# Altium schematic symbol library SamlibSCH.SchLib: 216 symbols (part 3 of 5)
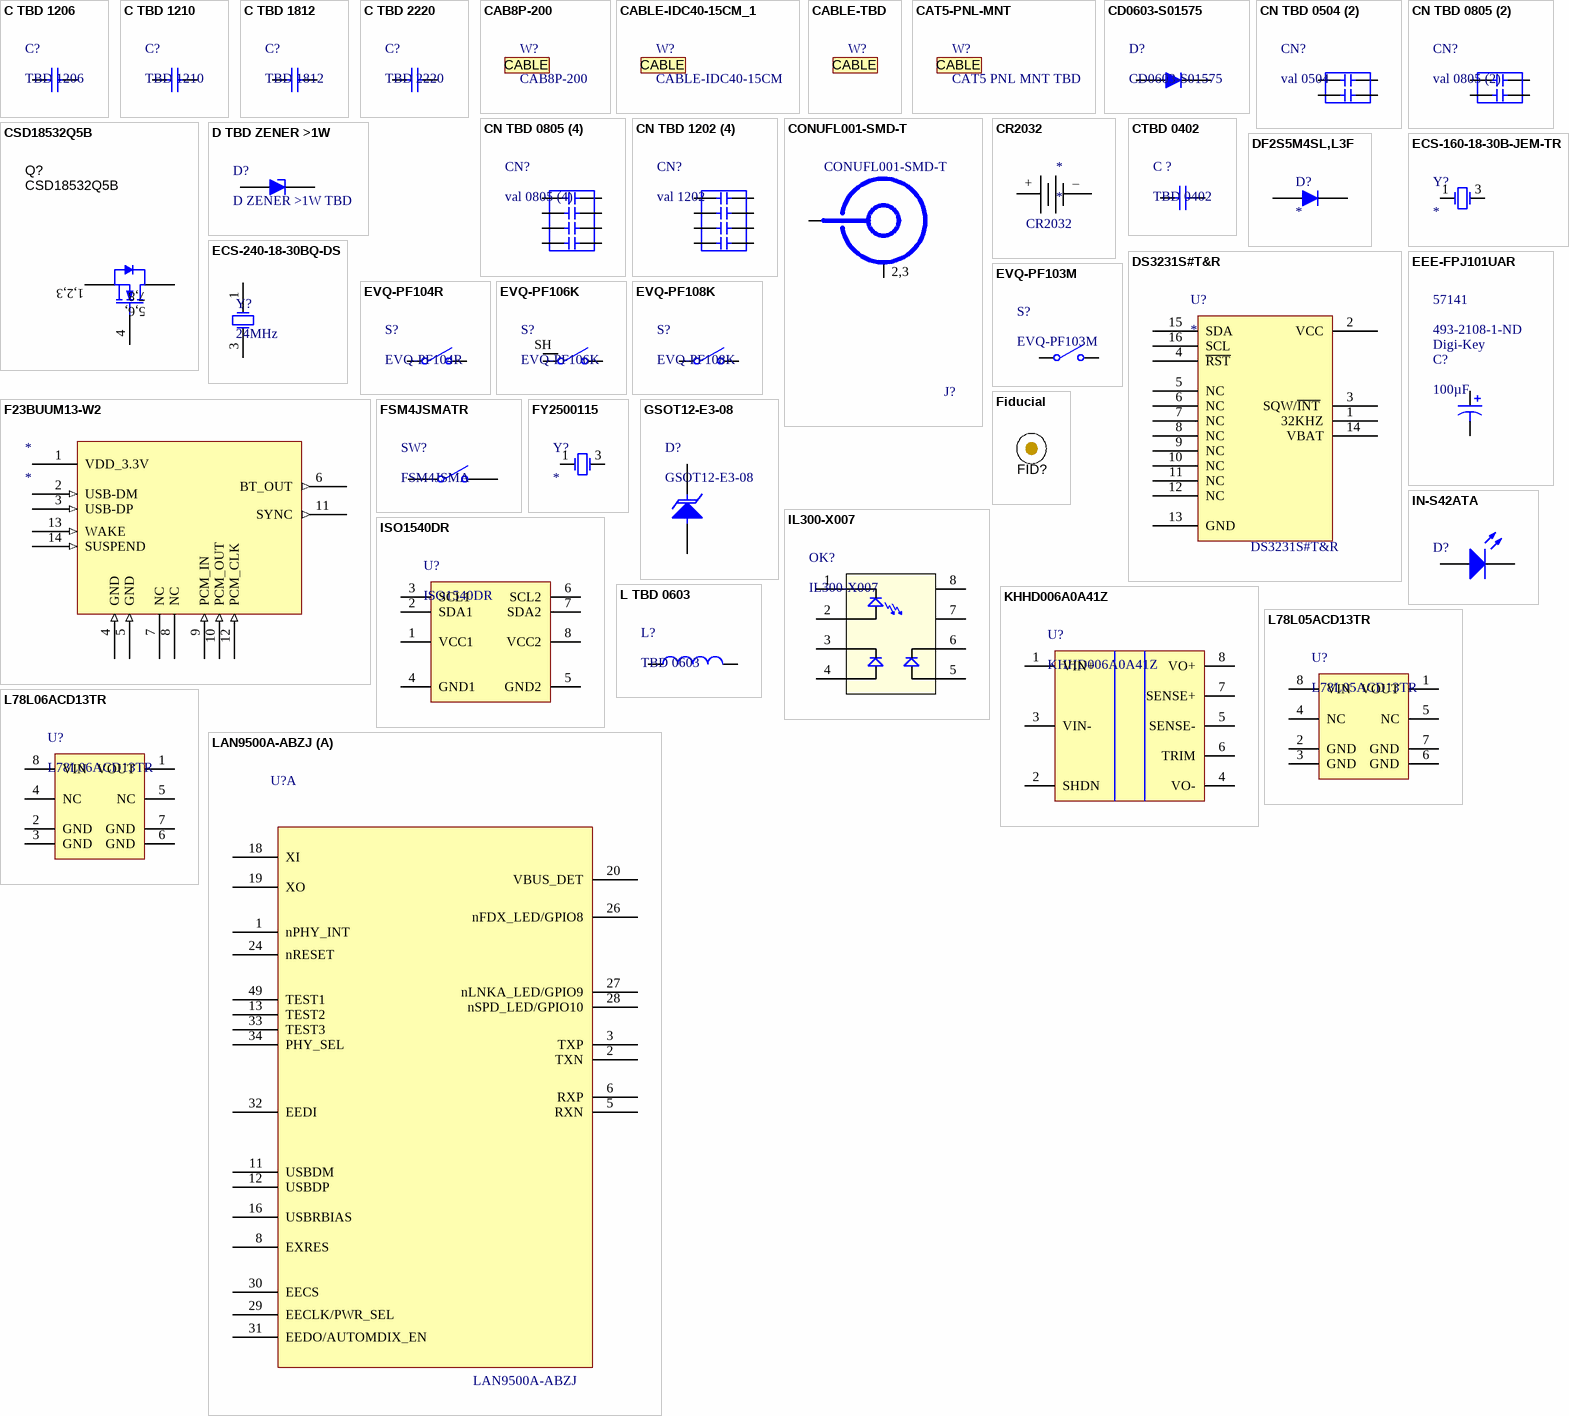
[diagram p9: symbols C TBD 1206 to LAN9500A-ABZJ]

## EVQ-PF103M
designator S?
SWITCH TACTILE SPST-NO 0.02A 15V; Manufacturer: Panasonic Electronic Components; Switch Function: Off-Mom; Contact Rating @ Voltage: 0.02A @ 15VDC; Actuator Type: Standard; Actuator Height off PCB, from Pins: 3.15mm; Actuator Orientation: Side Actuated; Outline: 7.50mm x 7.10mm; Illumination: Non-Illuminated; Operating Force: 130gf; Switch Travel: 0.25mm; Mechanical Life: 100,000 Cycles; Packaging: Bulk; Circuit: SPST-NO; Mounting Type: Through Hole, Right Angle; Termination Style: PC Pin; Illumination Voltage (Nominal): -; Illumination Type, Color: -; Ingress Protection: -; Features: -; Actuator Material: -; Operating Temperature: -20°C ~ 70°C; ComponentLink1URL: http://industrial.panasonic.com/www-data/pdf/ATK0000/ATK0000CE32.pdf; ComponentLink1Description: http://industrial.panasonic.com/www-data/pdf/ATK0000/ATK0000CE32.pdf; Supplier 1: Digi-Key; Supplier Part Number 1: P10881S-ND; Manufacturer Part Number: EVQ-PF103M; RoHS: RoHS Compliant; Category: Switches; Stock: 125; Pricing: 1=0.29, 10=0.276, 25=0.2364, 50=0.201, 100=0.1931, 250=0.17336, 500=0.16548, 1000=0.1379, 5000=0.1182 (USD)
footprint EVQPF-3.15 (Panasonic Right Angle Tactile Switch (7.50mm x 7.10mm x 4mm Center))
pins: 1 CO, 2 NO

## EVQ-PF104R
designator S?
SWITCH TACTILE SPST-NO 0.02A 15V; Manufacturer: Panasonic Electronic Components; Switch Function: Off-Mom; Contact Rating @ Voltage: 0.02A @ 15VDC; Actuator Type: Standard; Actuator Height off PCB, from Pins: 3.85mm; Actuator Orientation: Side Actuated; Outline: 7.50mm x 7.10mm; Illumination: Non-Illuminated; Operating Force: 130gf; Switch Travel: 0.25mm; Mechanical Life: 100,000 Cycles; Packaging: Bulk; Circuit: SPST-NO; Mounting Type: Through Hole, Right Angle; Termination Style: PC Pin; Illumination Voltage (Nominal): -; Illumination Type, Color: -; Ingress Protection: -; Features: -; Actuator Material: -; Operating Temperature: -20°C ~ 70°C; ComponentLink1URL: http://industrial.panasonic.com/www-data/pdf/ATK0000/ATK0000CE32.pdf; ComponentLink1Description: http://industrial.panasonic.com/www-data/pdf/ATK0000/ATK0000CE32.pdf; Supplier 1: Digi-Key; Supplier Part Number 1: P10882S-ND; Manufacturer Part Number: EVQ-PF104R; RoHS: RoHS Compliant; Category: Switches; Stock: 5473; Pricing: 1=0.29, 10=0.276, 25=0.2364, 50=0.201, 100=0.1931, 250=0.17336, 500=0.16548, 1000=0.1379, 5000=0.1182 (USD)
footprint EVQPF-3.85 (Panasonic Right Angle Tactile Switch (7.50mm x 7.10mm x 4mm Center))
pins: 1 CO, 2 NO

## EVQ-PF106K
designator S?
SWITCH TACTILE SPST-NO 0.02A 15V; Manufacturer: Panasonic Electronic Components; Switch Function: Off-Mom; Contact Rating @ Voltage: 0.02A @ 15VDC; Actuator Type: Standard; Actuator Height off PCB, from Pins: 5.85mm; Actuator Orientation: Side Actuated; Outline: 7.50mm x 7.10mm; Illumination: Non-Illuminated; Operating Force: 130gf; Switch Travel: 0.25mm; Mechanical Life: 100,000 Cycles; Packaging: Bulk; Circuit: SPST-NO; Mounting Type: Through Hole, Right Angle; Termination Style: PC Pin; Illumination Voltage (Nominal): -; Illumination Type, Color: -; Ingress Protection: -; Features: -; Actuator Material: -; Operating Temperature: -20°C ~ 70°C; ComponentLink1URL: http://industrial.panasonic.com/www-data/pdf/ATK0000/ATK0000CE32.pdf; ComponentLink1Description: http://industrial.panasonic.com/www-data/pdf/ATK0000/ATK0000CE32.pdf; Supplier 1: Digi-Key; Supplier Part Number 1: P10883S-ND; Manufacturer Part Number: EVQ-PF106K; RoHS: RoHS Compliant; Category: Switches; Stock: 6600; Pricing: 1=0.29, 10=0.276, 25=0.2364, 50=0.201, 100=0.1931, 250=0.17336, 500=0.16548, 1000=0.1379, 5000=0.1182 (USD)
footprint EVQPF-5.85 (Panasonic Right Angle Tactile Switch (7.50mm x 7.10mm x 4mm Center))
pins: CO, NO, SH

## EVQ-PF108K
designator S?
SWITCH TACTILE SPST-NO 0.02A 15V; Manufacturer: Panasonic Electronic Components; Switch Function: Off-Mom; Contact Rating @ Voltage: 0.02A @ 15VDC; Actuator Type: Standard; Actuator Height off PCB, from Pins: 8.35mm; Actuator Orientation: Side Actuated; Outline: 7.50mm x 7.10mm; Illumination: Non-Illuminated; Operating Force: 130gf; Switch Travel: 0.25mm; Mechanical Life: 100,000 Cycles; Packaging: Bulk; Circuit: SPST-NO; Mounting Type: Through Hole, Right Angle; Termination Style: PC Pin; Illumination Voltage (Nominal): -; Illumination Type, Color: -; Ingress Protection: -; Features: -; Actuator Material: -; Operating Temperature: -20°C ~ 70°C; ComponentLink1URL: http://industrial.panasonic.com/www-data/pdf/ATK0000/ATK0000CE32.pdf; ComponentLink1Description: http://industrial.panasonic.com/www-data/pdf/ATK0000/ATK0000CE32.pdf; Supplier 1: Digi-Key; Supplier Part Number 1: P10884S-ND; Manufacturer Part Number: EVQ-PF108K; RoHS: RoHS Compliant; Category: Switches; Stock: 8421; Pricing: 1=0.29, 10=0.276, 25=0.2364, 50=0.201, 100=0.1931, 250=0.17336, 500=0.16548, 1000=0.1379, 5000=0.1182 (USD)
footprint EVQPF-8.35 (Panasonic Right Angle Tactile Switch (7.50mm x 7.10mm x 4mm Center))
pins: 1 CO, 2 NO

## F23BUUM13-W2
designator *
WiFi Bluetooth RTL8723 2.4G USB Wireless Transceiver Module
footprint F23BUUM13-W2 (WiFi Bluetooth RTL8723 2.4G USB Wireless Transceiver Module)
pins: 1 VDD_3.3V (power), 2 USB-DM (in), 3 USB-DP (in), 4 GND (in), 5 GND (in), 6 BT_OUT (out), 7 NC (oc), 8 NC, 9 PCM_IN (in), 10 PCM_OUT (in), 11 SYNC (out), 12 PCM_CLK (in), 13 WAKE (in), 14 SUSPEND (in)

## Fiducial
designator FID?  (value not drawn)
FID MARK (NOTHING TO MNT OR BUY)
footprint Fiducial10-30
footprint Fiducial10-20
footprint Fiducial15-30
footprint Fiducial20-40
footprint Fiducial6.4-20

## FSM4JSMATR
designator SW?, comment FSM4JSMA
SWITCH TACTILE SPST-NO 0.05A 24V; Manufacturer: TE Connectivity Alcoswitch Switches; Switch Function: Off-Mom; Contact Rating @ Voltage: 0.05A @ 24VDC; Actuator Type: Standard; Actuator Height off PCB, from Pins: 5.00mm; Actuator Orientation: Top Actuated; Outline: 6.00mm x 6.00mm; Illumination: Non-Illuminated; Operating Force: 160gf; Actuator Material: Polyphenylene Sulfide (PPS); Switch Travel: 0.25mm; Mechanical Life: 100,000 Cycles; Packaging: Bulk; Circuit: SPST-NO; Mounting Type: Surface Mount; Termination Style: Gull Wing; Illumination Voltage (Nominal): -; Illumination Type, Color: -; Ingress Protection: -; Features: -; Operating Temperature: -35°C ~ 85°C; ComponentLink1URL: http://www.te.com/commerce/DocumentDelivery/DDEController?Action=srchrtrv&DocNm=2-1437565-7&DocType=Customer+Drawing&DocLang=English; ComponentLink1Description: http://www.te.com/commerce/DocumentDelivery/DDEController?Action=srchrtrv&DocNm=2-1437565-7&DocType=Customer+Drawing&DocLang=English; Supplier 1: Digi-Key; Supplier Part Number 1: 450-1129-ND; Manufacturer Part Number: FSM4JSMA; RoHS: RoHS Compliant; Category: Switches; Stock: 22069; Pricing: 1=0.2, 10=0.196, 25=0.19, 50=0.183, 100=0.173, 200=0.162, 500=0.155, 1000=0.119, 2000=0.096 (USD)
footprint FSM4JSMATR (SWITCH TACTILE SPST-NO 0.05A 24V)
pins: 1 CO hidden to CO, 2 CO, 3 NO hidden to NO, 4 NO

## FY2500115
designator Y?
CRYSTAL 25.0000MHZ 8PF SMD; Manufacturer 1: Diodes; Manufacturer Part Number 1: FY2500115; Frequency: 25MHz; ESR (Equivalent Series Resistance): 50R; Frequency Stability: 10ppm; ComponentLink1URL: https://www.eea.epson.com/wp-content/uploads/2016/11/November-2016-PCS-MASTER-BOOK.pdf?src-supplier=Verical; ComponentLink1Description: https://www.eea.epson.com/wp-content/uploads/2016/11/November-2016-PCS-MASTER-BOOK.pdf?src-supplier=Verical; ComponentLink2URL: https://www5.epsondevice.com/en/information/support/pdf/june_2018_psc_masterbook.pdf?src-supplier=Digi-Key; ComponentLink2Description: https://www5.epsondevice.com/en/information/support/pdf/june_2018_psc_masterbook.pdf?src-supplier=Digi-Key; ComponentLink3URL: https://www.eea.epson.com/wp-content/uploads/2016/11/November-2016-PCS-MASTER-BOOK.pdf?src-supplier=Mouser; ComponentLink3Description: https://www.eea.epson.com/wp-content/uploads/2016/11/November-2016-PCS-MASTER-BOOK.pdf?src-supplier=Mouser; ComponentLink4URL: https://www.eea.epson.com/wp-content/uploads/2016/11/November-2016-PCS-MASTER-BOOK.pdf?src-supplier=Dove; ComponentLink4Description: https://www.eea.epson.com/wp-content/uploads/2016/11/November-2016-PCS-MASTER-BOOK.pdf?src-supplier=Dove; Supplier 1: Digi-Key; Stock 1: 252; Pricing 1: 1=0.66000, 10=0.58700, 50=0.54880, 100=0.48510, 500=0.45954 (USD); RoHS: Yes; Mount: Surface Mount; Case/Package: SMD/SMT; Min Operating Temperature: -20°C; Max Operating Temperature: 70°C; Packaging: Tape and Reel; Load Capacitance: 8pF; Frequency Tolerance: 10ppm; Length: 0.197inch; Height: 0.043inch; Width: 0.126inch; Supplier Part Number 1: FY2500115CT-ND
footprint SMD 3.2MMx5MM (XTAL 3.2MMx5MM)
pins: 1 OSC1, 3 OSC2

## GSOT12-E3-08
designator D?
TVS DIODE 12VWM 26VC SOT23; Manufacturer: Vishay Semiconductor Diodes Division; Type: Zener; Unidirectional Channels: 1; Voltage - Reverse Standoff (Typ): 12V (Max); Voltage - Breakdown (Min): 13.5V; Voltage - Clamping (Max) @ Ipp: 26V; Current - Peak Pulse (10/1000µs): 12A (8/20µs); Power - Peak Pulse: 312W; Power Line Protection: No; Capacitance @ Frequency: 115pF @ 1MHz; Supplier 1: Digi-Key; Manufacturer Part Number: GSOT12-E3-08; RoHS: RoHS Compliant; Category: Circuit Protection; Stock 1: 18892; Pricing 1: 1=0.38, 10=0.283, 100=0.1764, 500=0.1206, 1000=0.0927 (USD); Packaging: Digi-Reel®; Bidirectional Channels: -; Applications: General Purpose; Operating Temperature: -40°C ~ 125°C (TJ); Mounting Type: Surface Mount; Package / Case: TO-236-3, SC-59, SOT-23-3; Supplier Device Package: SOT-23-3; ComponentLink1URL: http://www.vishay.com/docs/85807/gsot03.pdf; ComponentLink1Description: http://www.vishay.com/docs/85807/gsot03.pdf; Supplier Part Number 1: GSOT12-E3-08DKR-ND
footprint SOT23-3N (SOT23, 3-Leads, Body 2.9x1.3mm, Pitch 0.95mm, Lead Span 2.5mm, IPC Medium Density)
pins: 1 A, 3 K

## IL300-X007
designator OK?
OPTOISO 5.3KV PHVOLT 8SMD; Manufacturer: Vishay Semiconductor Opto Division; Number of Channels: 1; Voltage - Isolation: 5300Vrms; Rise / Fall Time (Typ): 1µs, 1µs; Input Type: DC; Output Type: Photovoltaic, Linearized; Voltage - Output (Max): 500mV; Voltage - Forward (Vf) (Typ): 1.25V; Current - DC Forward (If) (Max): 60mA; Packaging: Tube; Current Transfer Ratio (Min): -; Current Transfer Ratio (Max): -; Turn On / Turn Off Time (Typ): -; Current - Output / Channel: -; Vce Saturation (Max): -; Operating Temperature: -55°C ~ 100°C; Mounting Type: Surface Mount; Package / Case: 8-SMD, Gull Wing; Supplier Device Package: 8-SMD; ComponentLink1URL: http://www.vishay.com/docs/83622/il300.pdf; ComponentLink1Description: http://www.vishay.com/docs/83622/il300.pdf; Supplier 1: Digi-Key; Supplier Part Number 1: IL300-X007-ND; Manufacturer Part Number: IL300-X007; RoHS: RoHS Compliant; Category: Isolators; Stock: 1546; Pricing: 1=4.81, 10=4.008, 25=3.3664, 100=2.8854, 250=2.5648, 500=2.32436, 750=2.2442, 1000=2.13199 (USD)
footprint SOJ254P1020X460-8L (SOJ, 8-Leads, Body 10.00x10.25mm, Pitch 2.54mm, IPC High Density)
pins: 1, 2, 3, 4, 5, 6, 7, 8

## IN-S42ATA
designator D?  (value not drawn)
LED AMBER CLEAR 0402 SMD; Manufacturer: Inolux; Manufacturer Part Number: IN-S42ATA; Supplier 1: Digi-Key; Supplier Part Number 1: 1830-1054-1-ND; Stock 1: 10882; Pricing 1: 1 = 0.53000, 10 = 0.38200, 25 = 0.29320, 100 = 0.19120, 250 = 0.14020, 500 = 0.11894, 1000 = 0.09770, 2500 = 0.08496 (USD); RoHS: No
footprint IN-S42ATA (LED, Body 1.0x0.5mm, IPC High Density)
pins: 1 A, 2 K

## ISO1540DR
designator U?
DGTL ISO 2.5KV 2CH I2C 8SOIC; Manufacturer: Texas Instruments; Isolated Power: No; Number of Channels: 2; Inputs - Side 1/Side 2: 2/2; Channel Type: Bidirectional; Voltage - Isolation: 2500Vrms; Common Mode Transient Immunity (Min): 25kV/µs; Data Rate: 1Mbps; Pulse Width Distortion (Max): 80ns, 21ns; Voltage - Supply: 3 V ~ 5.5 V; Packaging: Cut Tape (CT); Technology: Capacitive Coupling; Type: I²C; Propagation Delay tpLH / tpHL (Max): -; Rise / Fall Time (Typ): -; Operating Temperature: -40°C ~ 125°C; Package / Case: 8-SOIC (0.154", 3.90mm Width); Supplier Device Package: 8-SOIC; ComponentLink1URL: http://www.ti.com/lit/ds/symlink/iso1540.pdf; ComponentLink1Description: http://www.ti.com/lit/ds/symlink/iso1540.pdf; Supplier 1: Digi-Key; Supplier Part Number 1: 296-34871-1-ND; Manufacturer Part Number: ISO1540DR; RoHS: RoHS Compliant; Category: Isolators; Stock 1: 5039; Pricing: 1=4.91, 10=4.41, 100=3.618, 500=3.078, 1000=2.25 (USD)
footprint SOIC127P600X175-8N (SOIC, 8-Leads, Body 4.9x3.9mm (max), Pitch 1.27mm, IPC Medium Density)
pins: 1 VCC1, 2 SDA1, 3 SCL1, 4 GND1, 5 GND2, 6 SCL2, 7 SDA2, 8 VCC2

## KHHD006A0A41Z
designator U?
DC/DC CONVERTER 5V 30W; Number of Outputs: 1; Voltage - Input (Min): 18V; Voltage - Input (Max): 75V; Current - Output (Max): 6A; Voltage - Isolation: 2.25kV (2250V); Efficiency: 90%; Input Voltage: 18 V to 75 V; Isolation Voltage: 2250 V; Package / Case Size: 1/16 Brick; Brand: GE Critical Power; Output Current-Channel 1: 6 A; Packaging: Tray; Type: Isolated Module; Voltage - Output 1: 5V; Voltage - Output 2: -; Voltage - Output 3: -; Power (Watts) - Manufacture Series: 30W; Features: Remote On/Off, OCP, OTP, OVP, SCP, UVLO; Mounting Type: Through Hole; Package / Case: 8-DIP Module, 1/16 Brick; Size / Dimension: 1.30" L x 0.90" W x 0.37" H (33.0mm x 22.9mm x 9.3mm); Operating Temperature: -40°C ~ 85°C; Power (Watts) - Max: 30W; ComponentLink1URL: http://apps.geindustrial.com/publibrary/checkout/KHHD006A0A?TNR=Data%20Sheets%7CKHHD006A0A%7Cgeneric; ComponentLink1Description: http://apps.geindustrial.com/publibrary/checkout/KHHD006A0A?TNR=Data%20Sheets%7CKHHD006A0A%7Cgeneric; Dimensions: 1.3 in  x 0.9 in  x 0.37 in; Height: 0.37 in; Length: 1.3 in; Operating Temperature Range: - 40 C to + 85 C; Product: Isolated; Series: KHHD; Width: 0.9 in; Mounting Style: Through Hole; Output Voltage-Channel 1: 5 V; Product Category: Sixteenth-Brick Isolated DC-DC Converters; Standard Pack Qty: 75; RoHS - Mouser: Y; Minimum Order Quantity: 1; Reeling: False; ComponentLink2URL: http://www.mouser.com/ds/2/167/KHHD006A0A-473808.pdf; ComponentLink2Description: http://www.mouser.com/ds/2/167/KHHD006A0A-473808.pdf; Supplier 1: Digi-Key; Supplier Part Number 1: 555-1324-ND; Manufacturer: GE Critical Power; Manufacturer Part Number: KHHD006A0A41Z; RoHS: RoHS Compliant; Category: Power Supplies - Board Mount; Stock: 178; Pricing: 1=24.86, 5=24.672, 25=24.0976, 50=22.95, 100=21.0375, 250=20.655, 500=20.349 (USD); Supplier 2: Mouser; Supplier Part Number 2: 894-KHHD006A0A41Z
footprint KHHD006A0A41Z (DC/DC CONVERTER 5V 30W)
pins: 1 VIN+, 2 SHDN, 3 VIN-, 4 VO-, 5 SENSE-, 6 TRIM, 7 SENSE+, 8 VO+

## L78L05ACD13TR
designator U?
IC REG LDO 5V 0.1A 8SO; Manufacturer: STMicroelectronics; Regulator Topology: Positive Fixed; Current - Output: 100mA; Voltage - Dropout (Typical): 1.7V @ 40mA; Number of Regulators: 1; Voltage - Input: Up to 30V; Packaging: Cut Tape (CT); Voltage - Output: 5V; Current - Limit (Min): -; Operating Temperature: 0°C ~ 125°C; Mounting Type: Surface Mount; Package / Case: 8-SOIC (0.154", 3.90mm Width); Supplier Device Package: 8-SO; ComponentLink1URL: http://www.st.com/content/ccc/resource/technical/document/datasheet/15/55/e5/aa/23/5b/43/fd/CD00000446.pdf/files/CD00000446.pdf/jcr:content/translations/en.CD00000446.pdf; ComponentLink1Description: http://www.st.com/content/ccc/resource/technical/document/datasheet/15/55/e5/aa/23/5b/43/fd/CD00000446.pdf/files/CD00000446.pdf/jcr:content/translations/en.CD00000446.pdf; Supplier 1: Digi-Key; Supplier Part Number 1: 497-1182-1-ND; Manufacturer Part Number: L78L05ACD13TR; RoHS: RoHS Compliant; Category: Integrated Circuits (ICs); Stock 1: 12145; Pricing: 1=0.41, 10=0.308, 100=0.1921, 500=0.13132, 1000=0.10094 (USD)
footprint SOIC127P600X175-8N (SOIC, 8-Leads, Body 4.9x3.9mm (max), Pitch 1.27mm, IPC Medium Density)
pins: 1 VOUT, 2 GND (power), 3 GND (power), 4 NC, 5 NC, 6 GND (power), 7 GND (power), 8 VIN (power)

## L78L06ACD13TR
designator U?
IC REG LDO 6V 0.1A 8SO; Manufacturer: STMicroelectronics; Regulator Topology: Positive Fixed; Current - Output: 100mA; Voltage - Dropout (Typical): 1.7V @ 40mA; Number of Regulators: 1; Voltage - Input: Up to 30V; Packaging: Cut Tape (CT); Voltage - Output: 6V; Current - Limit (Min): -; Operating Temperature: 0°C ~ 125°C; Mounting Type: Surface Mount; Package / Case: 8-SOIC (0.154", 3.90mm Width); Supplier Device Package: 8-SO; ComponentLink1URL: http://www.st.com/content/ccc/resource/technical/document/datasheet/15/55/e5/aa/23/5b/43/fd/CD00000446.pdf/files/CD00000446.pdf/jcr:content/translations/en.CD00000446.pdf; ComponentLink1Description: http://www.st.com/content/ccc/resource/technical/document/datasheet/15/55/e5/aa/23/5b/43/fd/CD00000446.pdf/files/CD00000446.pdf/jcr:content/translations/en.CD00000446.pdf; Supplier 1: Digi-Key; Supplier Part Number 1: 497-1185-1-ND; Manufacturer Part Number: L78L06ACD13TR; RoHS: RoHS Compliant; Category: Integrated Circuits (ICs); Stock 1: 8308; Pricing: 1=0.36, 10=0.29, 100=0.198, 500=0.1482, 1000=0.111 (USD)
footprint SOIC127P600X175-8N (SOIC, 8-Leads, Body 4.9x3.9mm (max), Pitch 1.27mm, IPC Medium Density)
pins: 1 VOUT, 2 GND (power), 3 GND (power), 4 NC, 5 NC, 6 GND (power), 7 GND (power), 8 VIN (power)

## L TBD 0603
designator L?, comment TBD 0603
footprint INDC1608AL (Chip Inductor, Body 1.6x0.8mm, IPC High Density)
footprint 0603 (0603 from SM-752 data)
pins: 1, 2

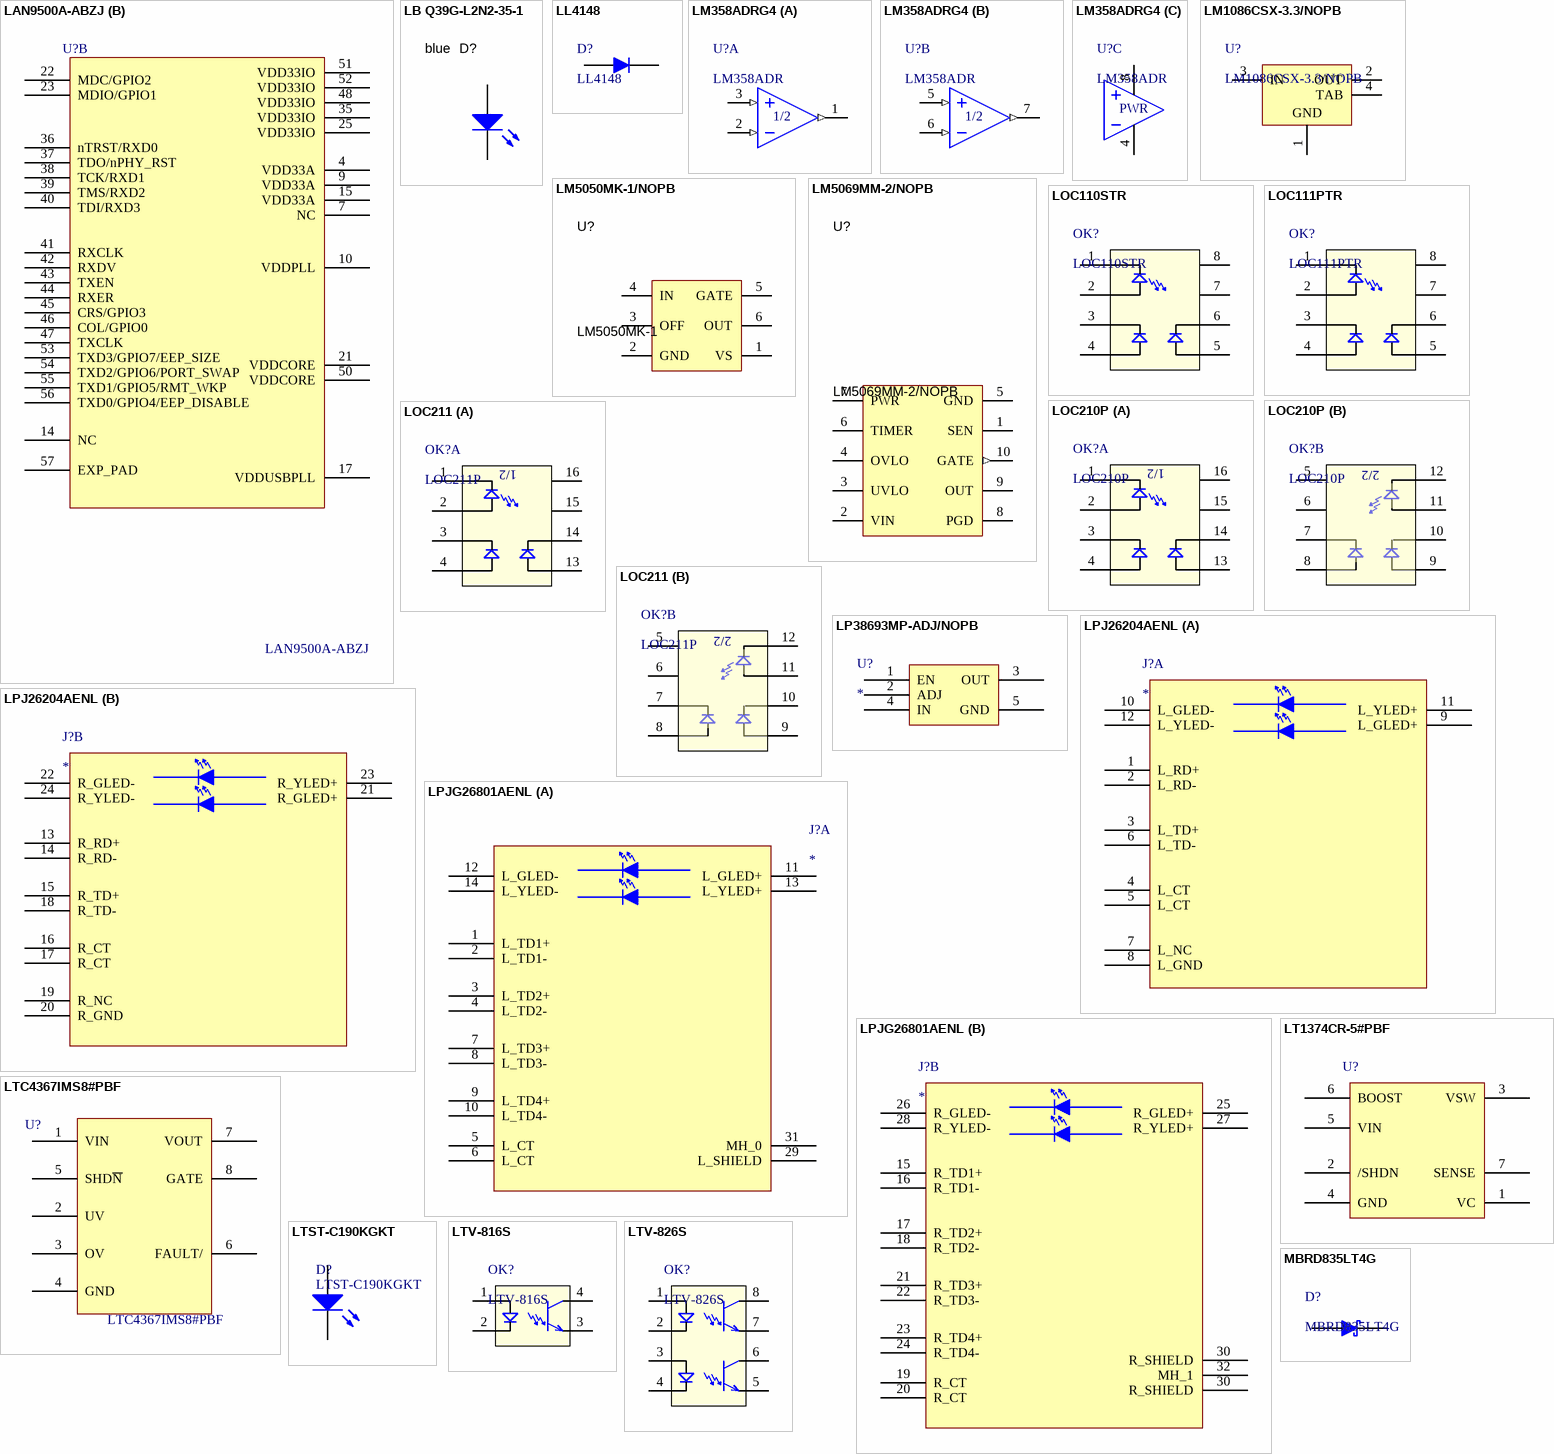
[diagram p3: symbols LAN9500A-ABZJ to MBRD835LT4G]

## LAN9500A-ABZJ
designator U?  Manufacturer Part Number: LAN9500A-ABZJ  (hidden comment: *)
IC USB 2.0 ETHER CTRLR 56-QFN; Manufacturer: Microchip; Data Rate: 100Mbps; Min Supply Voltage: 3V; Max Supply Voltage: 3.6V; Operating Supply Voltage: 3.3V; Max Power Dissipation: 618mW; Number of Transceivers: 1; Max Supply Current: 103mA; ComponentLink1URL: https://datasheet.ciiva.com/6636/filehandler-aspxddocname-en562338-6636277.pdf?src-supplier=Digi-Key; ComponentLink1Description: https://datasheet.ciiva.com/6636/filehandler-aspxddocname-en562338-6636277.pdf?src-supplier=Digi-Key; Supplier 1: Digi-Key; Supplier Part Number 1: LAN9500A-ABZJ-ND; Stock 1: 41; Pricing 1: 1 = 3.96000, 25 = 3.29600, 100 = 3.18010 (USD); RoHS: Yes; Mount: Surface Mount; Case/Package: QFN; Number of Pins: 56; Contact Plating: Tin; Min Operating Temperature: 0°C; Max Operating Temperature: 70°C; Packaging: Tray; Package Quantity: 260; Interface: USB; Length: 8.15mm; Height: 0.9mm; Width: 8.15mm; Radiation Hardening: No; Lead Free: Lead Free; REACH SVHC: No SVHC; ComponentLink2URL: https://datasheet.ciiva.com/22656/1907741-22656486.pdf?src-supplier=Element14; ComponentLink2Description: https://datasheet.ciiva.com/22656/1907741-22656486.pdf?src-supplier=Element14; ComponentLink3URL: https://datasheet.ciiva.com/6636/filehandler-aspxddocname-en562338-6636268.pdf?src-supplier=Digi-Key; ComponentLink3Description: https://datasheet.ciiva.com/6636/filehandler-aspxddocname-en562338-6636268.pdf?src-supplier=Digi-Key
footprint QFN50P800X800X95_HS-57N (QFN, 56-Leads, Body 8.00x8.00mm, Pitch 0.50mm, Thermal Pad 4.00x2.20mm, IPC Medium Density)
part A pins: 1 nPHY_INT, 2 TXN, 3 TXP, 5 RXN, 6 RXP, 8 EXRES, 11 USBDM, 12 USBDP, 13 TEST2, 16 USBRBIAS, 18 XI, 19 XO, 20 VBUS_DET, 24 nRESET, 26 nFDX_LED/GPIO8, 27 nLNKA_LED/GPIO9, 28 nSPD_LED/GPIO10, 29 EECLK/PWR_SEL, 30 EECS, 31 EEDO/AUTOMDIX_EN, 32 EEDI, 33 TEST3, 34 PHY_SEL, 49 TEST1
part B pins: 4 VDD33A, 7 NC, 9 VDD33A, 10 VDDPLL, 14 NC, 15 VDD33A, 17 VDDUSBPLL, 21 VDDCORE, 22 MDC/GPIO2, 23 MDIO/GPIO1, 25 VDD33IO, 35 VDD33IO, 36 nTRST/RXD0, 37 TDO/nPHY_RST, 38 TCK/RXD1, 39 TMS/RXD2, 40 TDI/RXD3, 41 RXCLK, 42 RXDV, 43 TXEN, 44 RXER, 45 CRS/GPIO3, 46 COL/GPIO0, 47 TXCLK, 48 VDD33IO, 50 VDDCORE, 51 VDD33IO, 52 VDD33IO, 53 TXD3/GPIO7/EEP_SIZE, 54 TXD2/GPIO6/PORT_SWAP, 55 TXD1/GPIO5/RMT_WKP, 56 TXD0/GPIO4/EEP_DISABLE, 57 EXP_PAD

## LB Q39G-L2N2-35-1
designator D?, comment Color: blue  (hidden comment: LB Q39G-L2OO-35-1)
LED BLUE DIFFUSED 0603 SMD; Manufacturer: OSRAM; PartNumber: LB Q39G-L2N2-35-1; Vf_V: 2.85; Value2: 2.85V; Io_A: 0.15; Tjmax_C: 95; Value1: W; U/M: EA; Wavelength - Dominant: 470nm; Wavelength - Peak: 472nm; Millicandela Rating: 29.5mcd; Current - Test: 5mA; Viewing Angle: 155°, 135°; Lens Color: White; Lens Style/Size: Rectangle with Flat Top, 1.10mm x 0.80mm; CompType: LED; SymbolVersion: 2008-12-08; MountType: SMT; RoHS: Y; PackageReference: BLUE 0603 LED; Type: ?; Published: 2008-07-11; Publisher: Texas Instruments; ComponentLink1URL: http://catalog.osram-os.com/catalogue/catalogue.do;jsessionid=8F4D5D14036503CDC6D844D9AC77EBC1?act=downloadFile&favOid=02000006000372cb000100b6; ComponentLink1Description: Datasheet link; LatestRevisionDate: 2015-04-28; Supplier 1: Digi-Key; Supplier Part Number 1: 475-2816-1-ND; Supplier 2: Mouser; Supplier Part Number 2: 720-LBQ39GL2N2351; Packaging: Cut Tape (CT); Voltage - Forward (Vf) (Typ): 2.85V; Lens Transparency: Diffused; Package / Case: 0603 (1608 Metric); Supplier Device Package: *; Size / Dimension: 1.60mm L x 0.80mm W; Height (Max): 0.40mm; Mounting Type: Surface Mount; ComponentLink2URL: http://media.digikey.com/pdf/Data%20Sheets/Osram%20PDFs/LB_LT%20Q39G.pdf; ComponentLink2Description: http://media.digikey.com/pdf/Data%20Sheets/Osram%20PDFs/LB_LT%20Q39G.pdf; Manufacturer Part Number: LB Q39G-L2OO-35-1; Category: Optoelectronics; Stock: 53859; Pricing: 1=0.38, 10=0.266, 25=0.2184, 100=0.1746, 250=0.13092, 500=0.11902, 1000=0.09522 (USD)
signal-integrity model Diode
footprint LB Q39G_BLUE
pins: 1 A, 2 K

## LL4148
designator D?
DIODE GEN PURP 100V 200MA SOD80; Manufacturer: Fairchild Semiconductor; Diode Type: Standard; Voltage - Forward (Vf) (Max) @ If: 1V @ 10mA; Speed: Small Signal =< 200mA (Io), Any Speed; Reverse Recovery Time (trr): 4ns; Current - Reverse Leakage @ Vr: 25nA @ 20V; Capacitance @ Vr, F: 4pF @ 0V, 1MHz; Packaging: Cut Tape (CT); Voltage - DC Reverse (Vr) (Max): 100V; Current - Average Rectified (Io): 200mA; Mounting Type: Surface Mount; Package / Case: DO-213AC, MINI-MELF, SOD-80; Supplier Device Package: SOD-80; Operating Temperature - Junction: -55°C ~ 175°C; ComponentLink1URL: http://www.fairchildsemi.com/datasheets/LL/LL4148.pdf; ComponentLink1Description: http://www.fairchildsemi.com/datasheets/LL/LL4148.pdf; Supplier 1: Digi-Key; Supplier Part Number 1: LL4148FSCT-ND; Manufacturer Part Number: LL4148; RoHS: RoHS Compliant; Category: Discrete Semiconductor Products; Stock 1: 828302; Pricing: 1=0.1, 10=0.077, 100=0.042, 500=0.02582, 1000=0.01761 (USD)
footprint DIOMELF3515N (MELF Diode, 2-Leads, Body 3.50x1.50mm, IPC Medium Density)
pins: 1, 2

## LM358ADRG4
designator U?, comment LM358ADR
IC OPAMP GP 700KHZ 8SOIC; Manufacturer: Texas Instruments; Amplifier Type: General Purpose; Number of Circuits: 2; Slew Rate: 0.3 V/µs; Current - Input Bias: 20nA; Voltage - Input Offset: 2mV; Current - Supply: 1mA; Current - Output / Channel: 30mA; Voltage - Supply, Single/Dual (±): 3 V ~ 32 V, ±1.5 V ~ 16 V; Number of Channels: 2 Channel; Shutdown: No Shutdown; CMRR - Common Mode Rejection Ratio: 65 dB; en - Input Voltage Noise Density: 40 nV/sqrt Hz; Ib - Input Bias Current: - 250 nA; Operating Supply Current: 1.2 mA; Output Current per Channel: 30 mA; SR - Slew Rate: 0.3 V/us; Supply Voltage - Max: 32 V; Supply Voltage - Min: 3 V; Vcm - Common Mode Voltage: Negative Rail to Positive Rail - 1.5 V; Vos - Input Offset Voltage: 3 mV; Packaging: Cut Tape (CT); Output Type: -; Gain Bandwidth Product: 700kHz; -3db Bandwidth: -; Operating Temperature: 0°C ~ 70°C; Mounting Type: Surface Mount; Package / Case: 8-SOIC (0.154", 3.90mm Width); Supplier Device Package: 8-SOIC; ComponentLink1URL: http://www.ti.com/lit/ds/symlink/lm358.pdf; ComponentLink1Description: http://www.ti.com/lit/ds/symlink/lm358.pdf; Supplier 1: Digi-Key; Supplier Part Number 1: 296-14601-1-ND; Manufacturer Part Number: LM358ADR; RoHS: RoHS Compliant; Category: Integrated Circuits (ICs); Stock: 23964; Pricing: 1=0.49, 10=0.371, 100=0.2313, 500=0.15812, 1000=0.12154 (USD); Product: Operational Amplifiers; Series: LM358A; Technology: Bipolar; Brand: Texas Instruments; Mounting Style: SMD/SMT; GBP - Gain Bandwidth Product: 700 kHz; Maximum Operating Temperature: + 70 C; Minimum Operating Temperature: 0 C; Product Category: Amplifiers - Operational; Standard Pack Qty: 75; RoHS - Mouser: Y; Minimum Order Quantity: 1; Reeling: False; ComponentLink2URL: http://www.mouser.com/ds/2/405/lm358a-557593.pdf; ComponentLink2Description: http://www.mouser.com/ds/2/405/lm358a-557593.pdf; Supplier 2: Mouser; Supplier Part Number 2: 595-LM358AD
footprint SOIC127P600X175-8N (SOIC, 8-Leads, Body 4.9x3.9mm (max), Pitch 1.27mm, IPC Medium Density)
part A pins: 1 OUT1 (out), 2 IN1- (in), 3 IN1+ (in)
part B pins: 5 IN1+ (in), 6 IN1- (in), 7 OUT1 (out)
part C pins: 4 V- (power), 8 V+ (power)
part A text: 1/2
part B text: 1/2
part C text: PWR

## LM1086CSX-3.3/NOPB
designator U?
IC REG LDO 3.3V 1.5A DDPAK; Manufacturer: Texas Instruments; Regulator Topology: Positive Fixed; Voltage - Dropout (Typical): 1.3V @ 1.5A; Number of Regulators: 1; Voltage - Input: Up to 27V; Packaging: Cut Tape (CT); Voltage - Output: 3.3V; Current - Output: 1.5A; Current - Limit (Min): 1.5A; Operating Temperature: 0°C ~ 125°C; Mounting Type: Surface Mount; Package / Case: TO-263-4, D²Pak (3 Leads + Tab), TO-263AA; Supplier Device Package: DDPAK/TO-263-3; ComponentLink1URL: http://www.ti.com/lit/ds/symlink/lm1086.pdf; ComponentLink1Description: http://www.ti.com/lit/ds/symlink/lm1086.pdf; Supplier 1: Digi-Key; Supplier Part Number 1: LM1086CSX-3.3/NOPBCT-ND; Manufacturer Part Number: LM1086CSX-3.3/NOPB; RoHS: RoHS Compliant By Exemption; Category: Integrated Circuits (ICs); Stock: 10339; Pricing: 1=1.72, 10=1.548, 100=1.2417 (USD)
footprint TS3B (D2-PAK, 4-Leads, Body 8.6x10.2mm, Pitch 2.54mm, Lead Span 14.2mm, IPC High Density)
pins: 1 GND (power), 2 OUT (power), 3 IN (power), 4 TAB (power)

## LM5050MK-1/NOPB
designator U?, comment LM5050MK-1
IC OR CTRLR N+1 6SOT; Manufacturer: Texas Instruments; Manufacturer Part Number: LM5050MK-1/NOPB; FET Type: N-Channel; Ratio - Input:Output: N:1; Internal Switch(s): No; Delay Time - OFF: 486ns; Current - Supply: 130µA; Voltage - Supply: 5 V ~ 75 V; Packaging: Cut Tape (CT); Type: N+1 ORing Controller; Delay Time - ON: -; Current - Output (Max): -; Applications: Redundant Power Supplies; Operating Temperature: -40°C ~ 125°C; Mounting Type: Surface Mount; Package / Case: SOT-23-6 Thin, TSOT-23-6; Supplier Device Package: 6-SOT; ComponentLink1URL: http://www.ti.com/lit/ds/symlink/lm5050-1.pdf; ComponentLink1Description: http://www.ti.com/lit/ds/symlink/lm5050-1.pdf; Supplier 1: Digi-Key; Supplier Part Number 1: LM5050MK-1/NOPBCT-ND; RoHS: RoHS Compliant; Category: Integrated Circuits (ICs); Stock: 7320; Pricing: 1=2.38, 10=2.138, 100=1.7148, 500=1.4094, 1000=0.97875 (USD)
footprint DDC0006A_N
pins: 1 VS (power), 2 GND (power), 3 OFF, 4 IN, 5 GATE, 6 OUT

## LM5069MM-2/NOPB
designator U?
IC CTRLR HOT SWAP 48V 10-MSOP; Manufacturer: Texas Instruments; Number of Channels: 1; Internal Switch(s): No; Programmable Features: Current Limit, Fault Timeout, OVP, UVLO; Voltage - Supply: 9 V ~ 80 V; Current - Supply: 1.3mA; Feature Pins: OUT, PGD, PWR, OVLO, TIMER, UVLO; Packaging: Cut Tape (CT); Type: Hot Swap Controller; Applications: General Purpose; Features: Auto Retry; Current - Output (Max): -; Operating Temperature: -40°C ~ 125°C; Mounting Type: Surface Mount; Package / Case: 10-TFSOP, 10-MSOP (0.118", 3.00mm Width); Supplier Device Package: 10-VSSOP; ComponentLink1URL: http://www.ti.com/lit/ds/symlink/lm5069.pdf; ComponentLink1Description: http://www.ti.com/lit/ds/symlink/lm5069.pdf; Supplier 1: Digi-Key; Supplier Part Number 1: LM5069MM-2/NOPBCT-ND; Manufacturer Part Number: LM5069MM-2/NOPB; RoHS: RoHS Compliant; Category: Integrated Circuits (ICs); Stock: 12011; Pricing: 1=3.61, 10=3.241, 100=2.6592, 500=2.26234, 1000=1.65375 (USD)
footprint MUB10A_N (TSSOP, 10-Leads, Body 3x3mm, Pitch 0.5mm, IPC Medium Density)
pins: 1 SEN, 2 VIN (power), 3 UVLO, 4 OVLO, 5 GND (power), 6 TIMER, 7 PWR, 8 PGD (oc), 9 OUT, 10 GATE (out)

## LOC110STR
designator OK?
OPTOISO 3.75KV PHVOLT 8SMD; Manufacturer: IXYS Integrated Circuits Division; Number of Channels: 1; Voltage - Isolation: 3750Vrms; Input Type: DC; Output Type: Photovoltaic, Linearized; Voltage - Forward (Vf) (Typ): 1.2V; Current - DC Forward (If) (Max): 100mA; Packaging: Cut Tape (CT); Current Transfer Ratio (Min): -; Current Transfer Ratio (Max): -; Turn On / Turn Off Time (Typ): -; Rise / Fall Time (Typ): -; Voltage - Output (Max): -; Current - Output / Channel: -; Vce Saturation (Max): -; Operating Temperature: -40°C ~ 85°C; Mounting Type: Surface Mount; Package / Case: 8-SMD, Gull Wing; Supplier Device Package: 8-SMD; ComponentLink1URL: http://www.clare.com/home/pdfs.nsf/0/2E7C7ED81A9497A385256A2C0068BE89/$file/LOC110.pdf; ComponentLink1Description: http://www.clare.com/home/pdfs.nsf/0/2E7C7ED81A9497A385256A2C0068BE89/$file/LOC110.pdf; Supplier 1: Digi-Key; Supplier Part Number 1: CLA114CT-ND; Manufacturer Part Number: LOC110STR; RoHS: RoHS Compliant; Category: Isolators; Stock: 6597; Pricing: 1=2.85, 10=2.55, 25=1.8752, 100=1.65, 250=1.5, 500=1.3125 (USD)
footprint LOC110S (SOJ, 8-Leads, Body 10.00x10.25mm, Pitch 2.54mm, IPC Medium Density)
pins: 1, 2, 3, 4, 5, 6, 7, 8

## LOC111PTR
designator OK?
OPTOISO 3.75KV PHVOLT 8-FLATPACK; Manufacturer: IXYS Integrated Circuits Division; Number of Channels: 1; Voltage - Isolation: 3750Vrms; Input Type: DC; Output Type: Photovoltaic, Linearized; Voltage - Forward (Vf) (Typ): 1.2V; Current - DC Forward (If) (Max): 100mA; Packaging: Digi-Reel®; Current Transfer Ratio (Min): -; Current Transfer Ratio (Max): -; Turn On / Turn Off Time (Typ): -; Rise / Fall Time (Typ): -; Voltage - Output (Max): -; Current - Output / Channel: -; Vce Saturation (Max): -; Operating Temperature: -40°C ~ 85°C; Mounting Type: Surface Mount; Package / Case: 8-SMD, Gull Wing; Supplier Device Package: 8-Flatpack; ComponentLink1URL: http://www.clare.com/home/pdfs.nsf/0/8F89219D571B94DA85256A2C0068C4BD/$file/LOC111.pdf; ComponentLink1Description: http://www.clare.com/home/pdfs.nsf/0/8F89219D571B94DA85256A2C0068C4BD/$file/LOC111.pdf; Supplier 1: Digi-Key; Supplier Part Number 1: CLA118DKR-ND; Manufacturer Part Number: LOC111PTR; RoHS: RoHS Compliant; Category: Isolators; Stock: 12737; Pricing: 1=3.34, 10=2.992, 25=2.2, 100=1.936, 250=1.76, 500=1.54 (USD)
footprint LOC110P (SOJ, 8-Leads, Body 10.00x10.25mm, Pitch 2.54mm, IPC High Density)
pins: 1, 2, 3, 4, 5, 6, 7, 8

## LOC210P
designator OK?
OPTOISO 3.75KV 2CH PHVOLT FLTPCK; Isolation Voltage: 3750 Vrms; Output Type: Phototransistor; Brand: IXYS Integrated Circuits; Number of Channels: 2 Channel; Current Transfer Ratio: 0.4 % to 3 %; If - Forward Current: 10 mA; Pd - Power Dissipation: 800 mW; Vf - Forward Voltage: 1.2 V; Vr - Reverse Voltage: 5 V; Package / Case: SOIC-16; Packaging: Tube; Series: LOC210; Maximum Operating Temperature: + 85 C; Minimum Operating Temperature: - 40 C; Standard Pack Qty: 50; Tradename: Clare; Minimum Order Quantity: 1; Reeling: False; ComponentLink1URL: http://www.mouser.com/ds/2/205/LOC210-311975.pdf; ComponentLink1Description: http://www.mouser.com/ds/2/205/LOC210-311975.pdf; Supplier 1: Mouser; Supplier Part Number 1: 849-LOC210P; Manufacturer: IXYS Integrated Circuits; Manufacturer Part Number: LOC210P; Category: High Linearity Optocouplers; Stock: 140; Pricing: 1=5.84, 10=4.67, 100=3.97, 250=3.73, 500=3.50, 1000=3.02, 2500=2.91, 5000=2.78 (AUD)
footprint SOIC127P1040X211-16L (SOIC, 16-Leads, Body 10.16x7.49mm, Pitch 1.27mm, IPC High Density)
part A pins: 1, 2, 3, 4, 13, 14, 15, 16
part B pins: 5, 6, 7, 8, 9, 10, 11, 12
part A text: 1/2
part B text: 2/2

## LOC211
designator OK?, comment LOC211P
OPTOISO 3.75KV 2CH PHVOLT FLTPCK; Isolation Voltage: 3750 Vrms; Output Type: Phototransistor; Brand: IXYS Integrated Circuits; Number of Channels: 2 Channel; Current Transfer Ratio: 0.8 % to 3 %; If - Forward Current: 10 mA; Pd - Power Dissipation: 800 mW; Vf - Forward Voltage: 1.2 V; Vr - Reverse Voltage: 5 V; Package / Case: SOIC-16; Packaging: Tube; Series: LOC211; Maximum Operating Temperature: + 85 C; Minimum Operating Temperature: - 40 C; Standard Pack Qty: 50; Tradename: Clare; Minimum Order Quantity: 1; Reeling: False; ComponentLink1URL: http://www.mouser.com/ds/2/205/LOC211-336321.pdf; ComponentLink1Description: http://www.mouser.com/ds/2/205/LOC211-336321.pdf; Supplier 1: Mouser; Supplier Part Number 1: 849-LOC211P; Manufacturer: IXYS Integrated Circuits; Manufacturer Part Number: LOC211P; Category: High Linearity Optocouplers; Stock: 8; Pricing: 1=5.84, 10=4.67, 100=3.97, 250=3.73, 500=3.50, 1000=3.02, 2500=2.91, 5000=2.78 (AUD)
footprint SOIC127P1040X211-16L (SOIC, 16-Leads, Body 10.16x7.49mm, Pitch 1.27mm, IPC High Density)
part A pins: 1, 2, 3, 4, 13, 14, 15, 16
part B pins: 5, 6, 7, 8, 9, 10, 11, 12
part A text: 1/2
part B text: 2/2

## LP38693MP-ADJ/NOPB
designator U?
IC REG LIN POS ADJ 500MA SOT223; Manufacturer: Texas Instruments; Manufacturer Part Number: LP38693MP-ADJ/NOPB; Number of Outputs: 1; Min Input Voltage: 2.7V; Output Voltage: 9V; Max Input Voltage: 10V; Polarity: Positive; Quiescent Current: 100uA; Accuracy: 2%; Output Type: Adjustable; Dropout Voltage: 250mV; Min Output Voltage: 1.25V; Supplier 1: Digi-Key; Stock 1: 31012; Pricing 1: 1=1.45000, 10=1.29800, 100=0.94600, 500=0.79200 (USD); RoHS: Yes; Mount: Surface Mount; Case/Package: SOT-223; Number of Pins: 5; Contact Plating: Tin,Matte; Min Operating Temperature: -40°C; Max Operating Temperature: 125°C; Max Output Current: 500mA; Packaging: Tape and Reel; Output Current: 500mA; Max Supply Voltage: 10V; Min Supply Voltage: 2.7V; Max Output Voltage: 9V; Termination: SMD/SMT; Output Voltage Accuracy: 2%; Number of Regulators: 1; Package Quantity: 1000; Length: 6.5mm; Height: 1.6mm; Width: 3.56mm; Radiation Hardening: No; REACH SVHC: No SVHC; Lead Free: Lead Free; ComponentLink1URL: https://datasheet.ciiva.com/22704/1850949-22704680.pdf?src-supplier=Element14; ComponentLink1Description: https://datasheet.ciiva.com/22704/1850949-22704680.pdf?src-supplier=Element14; ComponentLink2URL: https://datasheet.ciiva.com/46386/1850949-46386040.pdf?src-supplier=Element14; ComponentLink2Description: https://datasheet.ciiva.com/46386/1850949-46386040.pdf?src-supplier=Element14; ComponentLink3URL: https://datasheet.ciiva.com/25974/lp38691-adj-25974889.pdf?src-supplier=Avnet+Europe; ComponentLink3Description: https://datasheet.ciiva.com/25974/lp38691-adj-25974889.pdf?src-supplier=Avnet+Europe; ComponentLink4URL: https://datasheet.ciiva.com/5697/1850949-5697899.pdf?src-supplier=Farnell; ComponentLink4Description: https://datasheet.ciiva.com/5697/1850949-5697899.pdf?src-supplier=Farnell; ComponentLink5URL: https://datasheet.ciiva.com/6591/lp38691-adj-6591726.pdf?src-supplier=Digi-Key; ComponentLink5Description: https://datasheet.ciiva.com/6591/lp38691-adj-6591726.pdf?src-supplier=Digi-Key; ComponentLink6URL: https://datasheet.ciiva.com/6591/lp38691-adj-6591727.pdf?src-supplier=Digi-Key; ComponentLink6Description: https://datasheet.ciiva.com/6591/lp38691-adj-6591727.pdf?src-supplier=Digi-Key; Supplier Part Number 1: LP38693MP-ADJ/NOPBCT-ND
pins: 1 EN, 2 ADJ, 3 OUT, 4 IN, 5 GND

## LPJ26204AENL
designator J?
CONN MAGJACK 2PORT 100 BASE-T W/ MAGNETICS; Manufacturer Part Number: LPJ26204AENL; Manufacturer: Link-PP
part A pins: 1 L_RD+, 2 L_RD-, 3 L_TD+, 4 L_CT, 5 L_CT, 6 L_TD-, 7 L_NC, 8 L_GND, 9 L_GLED+, 10 L_GLED-, 11 L_YLED+, 12 L_YLED-
part B pins: 13 R_RD+, 14 R_RD-, 15 R_TD+, 16 R_CT, 17 R_CT, 18 R_TD-, 19 R_NC, 20 R_GND, 21 R_GLED+, 22 R_GLED-, 23 R_YLED+, 24 R_YLED-

## LPJG26801AENL
designator J?
CONN MAGJACK 2PORT 1000 BASE-T W/ MAGNETICS; Manufacturer Part Number: LPJG26801AENL; Manufacturer: Link-PP
footprint LPJG26801AENL (DUAL BASE1000-T RJ45 CONNECTOR WITH MAGNETICS)
part A pins: 1 L_TD1+, 2 L_TD1-, 3 L_TD2+, 4 L_TD2-, 5 L_CT, 6 L_CT, 7 L_TD3+, 8 L_TD3-, 9 L_TD4+, 10 L_TD4-, 11 L_GLED+, 12 L_GLED-, 13 L_YLED+, 14 L_YLED-, 29 L_SHIELD, 31 MH_0
part B pins: 15 R_TD1+, 16 R_TD1-, 17 R_TD2+, 18 R_TD2-, 19 R_CT, 20 R_CT, 21 R_TD3+, 22 R_TD3-, 23 R_TD4+, 24 R_TD4-, 25 R_GLED+, 26 R_GLED-, 27 R_YLED+, 28 R_YLED-, 30 R_SHIELD, 30 R_SHIELD, 32 MH_1

## LT1374CR-5#PBF
designator U?  (value not drawn)
IC REG BUCK SEPIC 5V 4.5A D2PAK; Manufacturer: Linear Technology; Function: Step-Down; Output Configuration: Positive; Topology: Buck, SEPIC; Output Type: Fixed; Number of Outputs: 1; Voltage - Input (Max): 25V; Current - Output: 4.5A (Switch); Frequency - Switching: 500kHz; Synchronous Rectifier: No; Packaging: Tube; Voltage - Input (Min): 5V; Voltage - Output (Min/Fixed): 5V; Voltage - Output (Max): -; Operating Temperature: 0°C ~ 125°C (TJ); Mounting Type: Surface Mount; Package / Case: TO-263-8, D²Pak (7 Leads + Tab), TO-263CA; Supplier Device Package: D2PAK-7; ComponentLink1URL: http://www.linear.com/docs/5227; ComponentLink1Description: http://www.linear.com/docs/5227; Supplier 1: Digi-Key; Supplier Part Number 1: LT1374CR-5#PBF-ND; Supplier 2: Arrow; Supplier Part Number 2: lYTC9Q4gz06gkSQ5h0CN0ig5_EqYRJFoDneyh2Q1xvo; Supplier 3: Farnell; Supplier Part Number 3: 2252751; Manufacturer Part Number: LT1374CR-5#PBF; RoHS: RoHS Compliant; Category: Integrated Circuits (ICs); Stock: 175; Pricing: 1=10.3, 25=6.84, 100=5.1506 (USD)
footprint TO127P1524X457-8N (D2-PAK, 8-Pads, Body 9.7x10.5mm (max), IPC Medium Density)
pins: 1 VC, 2 /SHDN, 3 VSW, 4 GND, 5 VIN, 6 BOOST, 7 SENSE

## LTC4367IMS8#PBF
designator U?  Manufacturer Part Number: LTC4367IMS8#PBF  (hidden comment: *)
SUPPLY PROTECTION CONTROLLER; Manufacturer: Analog Devices / Linear Technology; Operating Supply Current: 70uA; Min Supply Voltage: 2.5V; Max Supply Voltage: 60V; Supplier 1: Digi-Key; Supplier Part Number 1: LTC4367IMS8#PBF-ND; Stock 1: 2679; Pricing 1: 1 = 4.67000, 25 = 3.09840, 100 = 2.56200, 250 = 2.43392, 500 = 2.37900 (USD); Mount: Surface Mount; Case/Package: MSOP; Number of Pins: 8; Min Operating Temperature: -40°C; Max Operating Temperature: 85°C; Packaging: Rail/Tube; REACH SVHC: No SVHC; ComponentLink1URL: http://www.farnell.com/datasheets/2032583.pdf?src-supplier=Element14; ComponentLink1Description: http://www.farnell.com/datasheets/2032583.pdf?src-supplier=Element14; ComponentLink2URL: http://www.linear.com/docs/47176?src-supplier=Digi-Key; ComponentLink2Description: http://www.linear.com/docs/47176?src-supplier=Digi-Key; ComponentLink3URL: http://datasheet.octopart.com/LTC4367IMS8%23PBF-Linear-Technology-datasheet-55968396.pdf?src-supplier=Farnell; ComponentLink3Description: http://datasheet.octopart.com/LTC4367IMS8%23PBF-Linear-Technology-datasheet-55968396.pdf?src-supplier=Farnell; ComponentLink4URL: http://datasheet.octopart.com/LTC4367IMS8%23PBF-Linear-Technology-datasheet-62144491.pdf?src-supplier=Newark; ComponentLink4Description: http://datasheet.octopart.com/LTC4367IMS8%23PBF-Linear-Technology-datasheet-62144491.pdf?src-supplier=Newark; ComponentLink5URL: http://sigma.octopart.com/57689691/technical_drawing/Linear-Technology-LTC4367IMS8%23PBF.pdf?src-supplier=Linear+Technology; ComponentLink5Description: http://sigma.octopart.com/57689691/technical_drawing/Linear-Technology-LTC4367IMS8%23PBF.pdf?src-supplier=Linear+Technology
footprint TSOP65P510X110-8N (TSOP, 8-Leads, Body 3.00x3.00mm, Pitch 0.65mm, IPC Medium Density)
pins: 1 VIN, 2 UV, 3 OV, 4 GND, 5 SHD~{N}, 6 FAULT/, 7 VOUT, 8 GATE

## LTST-C190KGKT
designator D?
LED GREEN CLEAR 0603 SMD; Manufacturer: Lite-On Inc.; Wavelength - Dominant: 571nm; Wavelength - Peak: 574nm; Millicandela Rating: 35mcd; Voltage - Forward (Vf) (Typ): 2V; Current - Test: 20mA; Viewing Angle: 130°; Lens Color: Colorless; Lens Style/Size: Rectangle with Flat Top, 1.10mm x 0.80mm; Packaging: Cut Tape (CT); Color: Green; Lens Transparency: Clear; Package / Case: 0603 (1608 Metric); Supplier Device Package: *; Size / Dimension: 1.60mm L x 0.80mm W; Height (Max): 0.80mm; Mounting Type: Surface Mount; ComponentLink1URL: http://optoelectronics.liteon.com/upload/download/DS22-2000-074/S_110_LTST-C190KGKT.pdf; ComponentLink1Description: http://optoelectronics.liteon.com/upload/download/DS22-2000-074/S_110_LTST-C190KGKT.pdf; Supplier 1: Digi-Key; Supplier Part Number 1: 160-1435-1-ND; Manufacturer Part Number: LTST-C190KGKT; RoHS: RoHS Compliant; Category: Optoelectronics; Stock: 632012; Pricing: 1=0.24, 10=0.186, 100=0.1015, 250=0.06768, 500=0.05752, 1000=0.04399 (USD); Supplier 2: Mouser; Supplier Part Number 2: 859-LTST-C190KGKT
footprint LED_LTST-C190 (Lite-On)
pins: 1 A, 2 K

## LTV-816S
designator OK?
OPTOISO 5KV TRANSISTOR 4-SMD; Manufacturer: Lite-On Inc.; Number of Channels: 1; Voltage - Isolation: 5000Vrms; Current Transfer Ratio (Min): 50% @ 5mA; Current Transfer Ratio (Max): 600% @ 5mA; Rise / Fall Time (Typ): 4µs, 3µs; Input Type: DC; Voltage - Output (Max): 80V; Current - Output / Channel: 50mA; Voltage - Forward (Vf) (Typ): 1.2V; Vce Saturation (Max): 200mV; Packaging: Tube; Turn On / Turn Off Time (Typ): -; Output Type: Transistor; Current - DC Forward (If) (Max): 50mA; Operating Temperature: -50°C ~ 110°C; Mounting Type: Surface Mount; Package / Case: 4-SMD, Gull Wing; Supplier Device Package: 4-SMD; ComponentLink1URL: http://media.digikey.com/pdf/Data%20Sheets/Lite-On%20PDFs/LTV-816_826_846.pdf; ComponentLink1Description: http://media.digikey.com/pdf/Data%20Sheets/Lite-On%20PDFs/LTV-816_826_846.pdf; Supplier 1: Digi-Key; Supplier Part Number 1: 160-1361-5-ND; Manufacturer Part Number: LTV-816S; RoHS: RoHS Compliant; Category: Isolators; Stock 1: 15076; Pricing: 1=0.43, 10=0.309, 25=0.252, 100=0.2016, 250=0.17012, 500=0.1449, 1000=0.1134, 2500=0.10395, 5000=0.0945 (USD)
footprint 4 SMT DIP (Mounting Pad Dimensions for CEL/RENESAS OPTOS (PN2009))
pins: 1, 2, 3, 4

## LTV-826S
designator OK?
OPTOISO 5KV 2CH TRANS 8-SMD; Manufacturer: Lite-On Inc.; Number of Channels: 2; Voltage - Isolation: 5000Vrms; Current Transfer Ratio (Min): 50% @ 5mA; Current Transfer Ratio (Max): 600% @ 5mA; Rise / Fall Time (Typ): 4µs, 3µs; Input Type: DC; Output Type: Transistor; Voltage - Output (Max): 80V; Current - Output / Channel: 50mA; Voltage - Forward (Vf) (Typ): 1.2V; Vce Saturation (Max): 200mV; Packaging: Tube; Turn On / Turn Off Time (Typ): -; Current - DC Forward (If) (Max): 50mA; Operating Temperature: -30°C ~ 100°C; Mounting Type: Surface Mount; Package / Case: 8-SMD, Gull Wing; Supplier Device Package: 8-SMD; ComponentLink1URL: http://media.digikey.com/pdf/Data%20Sheets/Lite-On%20PDFs/LTV-816_826_846.pdf; ComponentLink1Description: http://media.digikey.com/pdf/Data%20Sheets/Lite-On%20PDFs/LTV-816_826_846.pdf; Supplier 1: Digi-Key; Supplier Part Number 1: 160-1363-5-ND; Manufacturer Part Number: LTV-826S; RoHS: RoHS Compliant; Category: Isolators; Stock 1: 22225; Pricing: 1=0.52, 10=0.402, 25=0.3348, 100=0.2884, 250=0.25752, 500=0.22146, 1000=0.17098, 2500=0.1545, 5000=0.1442 (USD)
footprint 8 SMT DIP (Mounting Pad Dimensions for CEL/RENESAS OPTOS (PN2009))
pins: 1, 2, 3, 4, 5, 6, 7, 8

## MBRD835LT4G
designator D?
DIODE SCHOTTKY 35V 8A DPAK; Manufacturer: ON Semiconductor; Voltage - Forward (Vf) (Max) @ If: 510mV @ 8A; Speed: Fast Recovery =< 500ns, > 200mA (Io); Current - Reverse Leakage @ Vr: 1.4mA @ 35V; Packaging: Cut Tape (CT); Diode Type: Schottky; Voltage - DC Reverse (Vr) (Max): 35V; Current - Average Rectified (Io): 8A; Reverse Recovery Time (trr): -; Capacitance @ Vr, F: -; Mounting Type: Surface Mount; Package / Case: TO-252-3, DPak (2 Leads + Tab), SC-63; Supplier Device Package: DPAK-3; Operating Temperature - Junction: -65°C ~ 150°C; ComponentLink1URL: http://www.onsemi.com/pub_link/Collateral/MBRD835L-D.PDF; ComponentLink1Description: http://www.onsemi.com/pub_link/Collateral/MBRD835L-D.PDF; Supplier 1: Digi-Key; Supplier Part Number 1: MBRD835LT4GOSCT-ND; Manufacturer Part Number: MBRD835LT4G; RoHS: RoHS Compliant; Category: Discrete Semiconductor Products; Stock: 26842; Pricing: 1=0.68, 10=0.594, 100=0.4545, 500=0.36008, 1000=0.28842 (USD); Supplier 2: Newark; Supplier Part Number 2: 88H4672
footprint TO229P990X238-3N (D-PAK, 3-Pads, Body 6.2x6.7mm (max), IPC Medium Density)
pins: 1, 3, 4

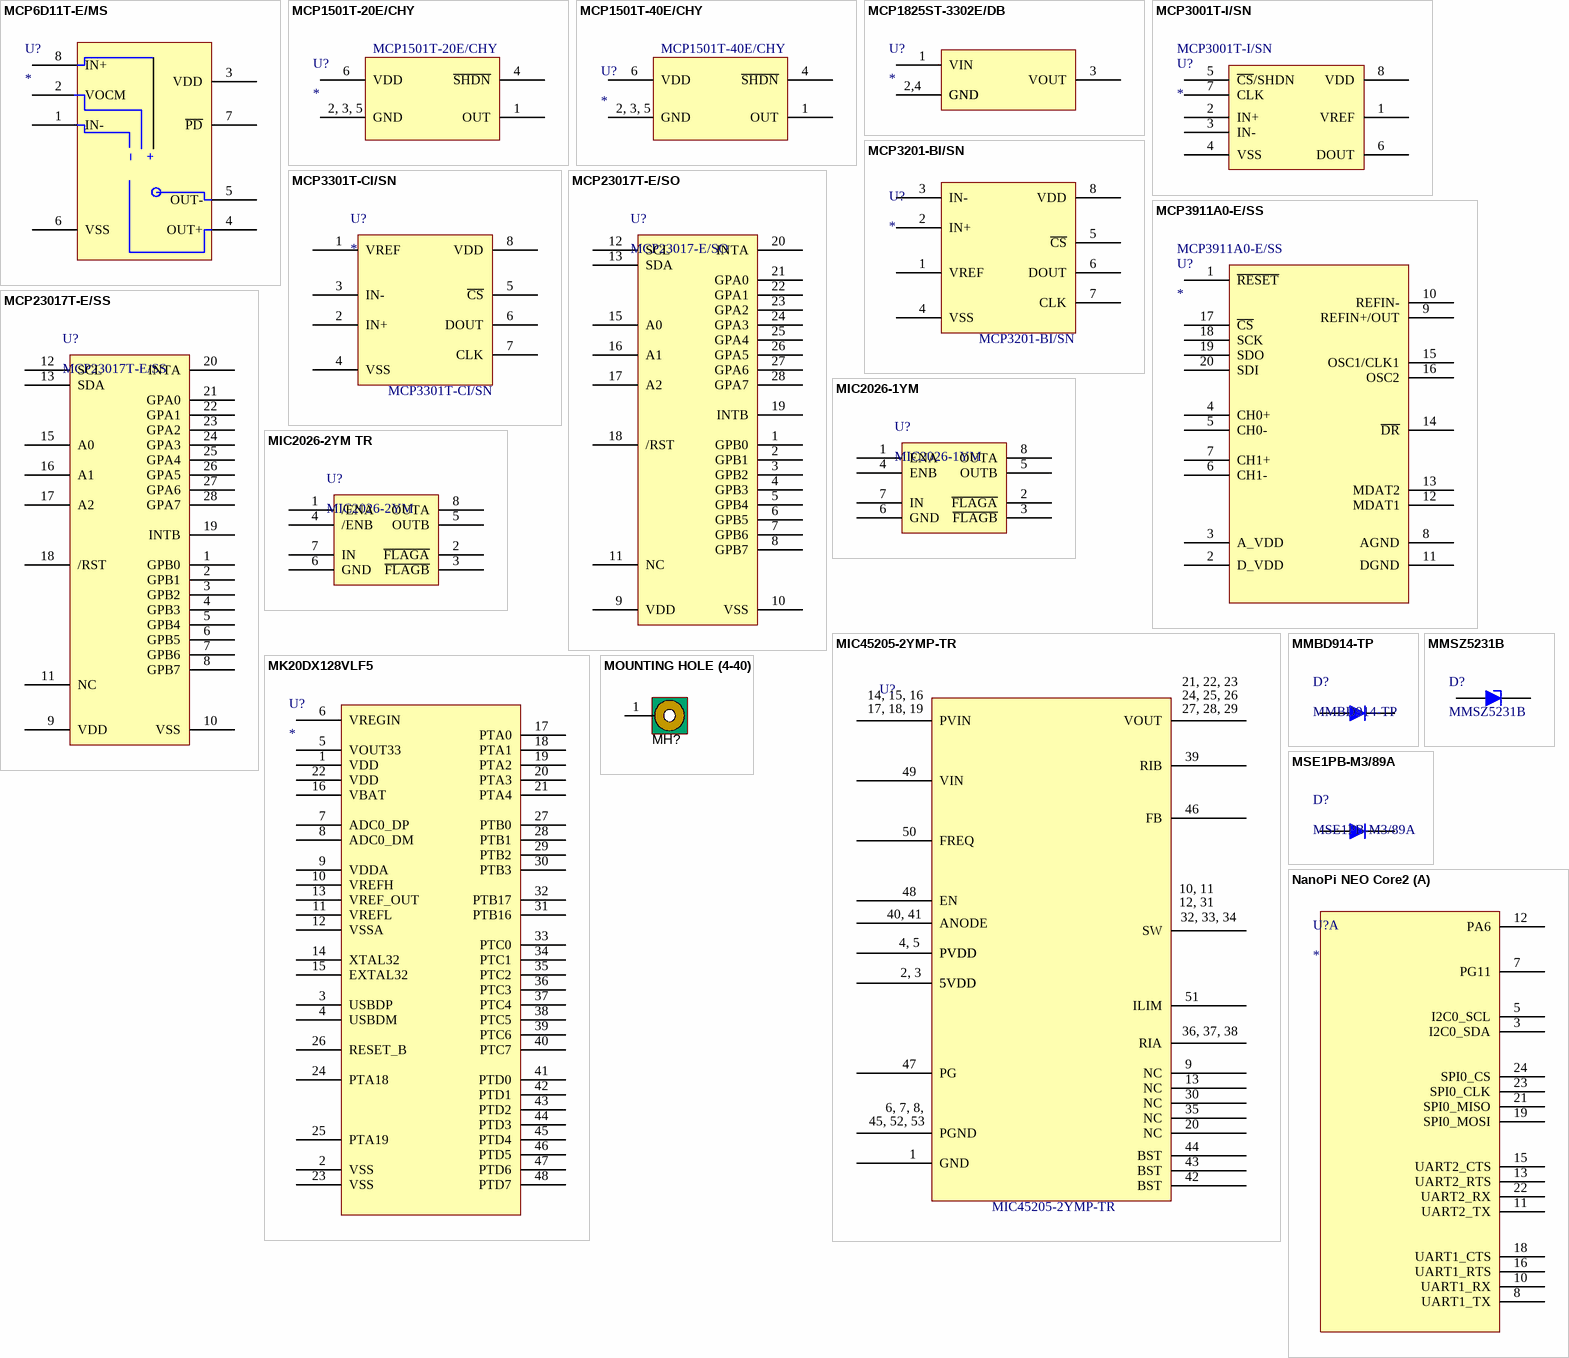
[diagram p4: symbols MCP6D11T-E/MS to NanoPi NEO Core2]

## MCP6D11T-E/MS
designator U?
IC CURR SENSE 1 CIRCUIT 8MSOP; Manufacturer: Microchip; Manufacturer Part Number: MCP6D11T-E/MS; Supplier: Digi-Key; Stock 1: 2453; Pricing 1: 1=1.58000, 25=1.31000 (USD); RoHS: No; Supplier Part Number: MCP6D11T-E/MSCT-ND
footprint TSOP65P490X110-8N (TSOP, 8-Leads, Body 3.00x2.95mm, Pitch 0.65mm, IPC Medium Density)
pins: 1 IN-, 2 VOCM, 3 VDD, 4 OUT+, 5 OUT-, 6 VSS, 7 ~{PD}, 8 IN+
text: –; +

## MCP1501T-20E/CHY
designator U?  Manufacturer Part Number: MCP1501T-20E/CHY
IC VREF 2.048SERIES 0.1% SOT23-6; Manufacturer: Microchip; Min Output Voltage: 2.048V; Output Current: 20mA; Temperature Coefficient: 50ppm/°C; Operating Supply Current: 550uA; Reference Type: Series; Output Type: Fixed; Supplier: Digi-Key; Stock 1: 917; Pricing 1: 1=0.76000, 25=0.63000 (USD); RoHS: Yes; Mount: Surface Mount; Case/Package: SOT-23-6; Min Operating Temperature: -40°C; Max Operating Temperature: 125°C; Packaging: Tape and Reel; Tolerance: 0.1%; ComponentLink1URL: http://www.farnell.com/datasheets/2595665.pdf?src-supplier=Farnell; ComponentLink1Description: http://www.farnell.com/datasheets/2595665.pdf?src-supplier=Farnell; ComponentLink2URL: http://www.microchip.com/mymicrochip/filehandler.aspx?ddocname=en584595&src-supplier=Digi-Key; ComponentLink2Description: http://www.microchip.com/mymicrochip/filehandler.aspx?ddocname=en584595&src-supplier=Digi-Key; Supplier Part Number: MCP1501T-20E/CHYCT-ND
footprint SOT95P280X116-6L (SOT23, 6-Leads, Body 2.90x2.80mm, Pitch 0.95mm, IPC High Density)
pins: 1 OUT, 2 GND, 3 GND, 4 ~{SHDN}, 5 GND, 6 VDD
text: 2, 3, 5

## MCP1501T-40E/CHY
designator U?  Manufacturer Part Number: MCP1501T-40E/CHY
IC VREF 4.096 SERIES 0.1% SOT23-6; Manufacturer: Microchip; Min Output Voltage: 4.096V; Output Current: 20mA; Temperature Coefficient: 50ppm/°C; Operating Supply Current: 550uA; Tolerance: 0.09%; Output Type: Fixed; Supplier: Digi-Key; Stock 1: 2414; Pricing 1: 1=0.76000, 25=0.63000 (USD); RoHS: Yes; Mount: Surface Mount; Case/Package: SOT-23-6; Min Operating Temperature: -40°C; Max Operating Temperature: 125°C; Packaging: Tape and Reel; Reference Type: Series; ComponentLink1URL: http://www.microchip.com/mymicrochip/filehandler.aspx?ddocname=en584595&src-supplier=Digi-Key; ComponentLink1Description: http://www.microchip.com/mymicrochip/filehandler.aspx?ddocname=en584595&src-supplier=Digi-Key; Supplier Part Number: MCP1501T-40E/CHYCT-ND
footprint SOT95P280X116-6L (SOT23, 6-Leads, Body 2.90x2.80mm, Pitch 0.95mm, IPC High Density)
pins: 1 OUT, 2 GND, 3 GND, 4 ~{SHDN}, 5 GND, 6 VDD
text: 2, 3, 5

## MCP1825ST-3302E/DB
designator U?
IC REG LIN 3.3V 500MA SOT223-3; Manufacturer: Microchip; Manufacturer Part Number: MCP1825ST-3302E/DB; Dropout Voltage: 210mV; Max Input Voltage: 6V; Number of Regulators: 1; Quiescent Current: 220uA; Output Type: Fixed; Min Input Voltage: 2.1V; Input Bias Current: 120uA; Polarity: Positive; Output Voltage Accuracy: 0.5%; Supplier 1: Digi-Key; Stock 1: 15387; Pricing 1: 1=0.51000, 25=0.43000, 100=0.39000 (USD); RoHS: Yes; Mount: Surface Mount; Case/Package: SOT-223; Number of Pins: 3; Min Operating Temperature: -40°C; Max Operating Temperature: 125°C; Packaging: Tape and Reel; Output Current: 500mA; Number of Outputs: 1; Output Voltage: 3.3V; Package Quantity: 4000; Radiation Hardening: No; ComponentLink1URL: https://datasheet.ciiva.com/8238/22056b-8238778.pdf?src-supplier=Avnet; ComponentLink1Description: https://datasheet.ciiva.com/8238/22056b-8238778.pdf?src-supplier=Avnet; ComponentLink2URL: https://datasheet.ciiva.com/2056/22056b-2056427.pdf?src-supplier=Digi-Key; ComponentLink2Description: https://datasheet.ciiva.com/2056/22056b-2056427.pdf?src-supplier=Digi-Key; Supplier Part Number 1: MCP1825ST-3302E/DBCT-ND
footprint SOT230P700X180-4L (SOT223, 4-Leads, Body 6.50x7.00mm (avg), Pitch 2.30mm, IPC High Density)
pins: 1 VIN, 2 GND, 3 VOUT, 4 GND
text: 2,4